# Altium schematic symbol library relay.SchLib: 1 symbol
Pins are listed as number, name and electrical type; pins without a type are passive.

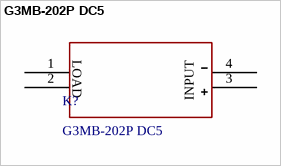
[diagram p0: symbol G3MB-202P DC5]

## G3MB-202P DC5
designator K?
5VDC-220VAC Solid State Relay; Vendor: Omron; Built_By: EMA_Cory; SourceLibrary: Omron_2020-03-27_1; Datasheet: https://media.digikey.com/pdf/Data%20Sheets/Omron%20PDFs/G3MB.pdf; Manufacturer_Part_Number: G3MB-202P DC5; Copyright: Copyright (C) 2018 Accelerated Designs. All rights reserved; RefDes: RefDes; Type: DEV
footprint G3MB
pins: 1, 2, 3, 4
text: LOAD; INPUT